# EAGLE library part 1X7 (library con-amp-micro-mate-n-lock)
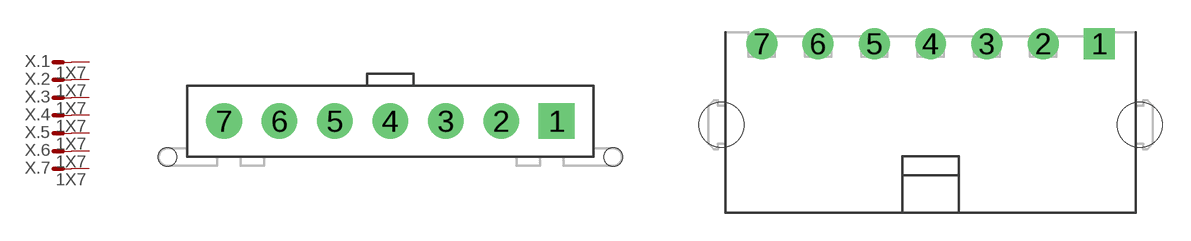
[diagram p6: symbol with the pads of 2-1445050-7; footprints 2-1445050-7, 2-1445054-7]

Designator prefix X; gates .1=M .2=M .3=M .4=M .5=M .6=M .7=M

## 1X7-A  [2-1445050-7]
1  .1:S  pas
2  .2:S  pas
3  .3:S  pas
4  .4:S  pas
5  .5:S  pas
6  .6:S  pas
7  .7:S  pas

## 1X7-B  [2-1445054-7]
Pads as for 2-1445050-7

## 1X7-C  [2-1445055-7]
Pads as for 2-1445050-7

## Footprint 2-1445050-7 (pad centres in mm)
drill 1.1 pad 1.93 square: 1 0,0
drill 1.1 pad 1.93 round: 2 -3,0; 3 -6,0; 4 -9,0; 5 -12,0; 6 -15,0; 7 -18,0
hole 1 at -21.07,-1.96
hole 1 at 3.07,-1.96

## Footprint 2-1445054-7 (pad centres in mm)
drill 1.1 square: 1 0,0
drill 1.1 round: 2 -3,0; 3 -6,0; 4 -9,0; 5 -12,0; 6 -15,0; 7 -18,0
hole 2.4 at 2.15,-4.32
hole 2.4 at -20.15,-4.32

## Footprint 2-1445055-7 (pad centres in mm)
drill 1.1 pad 1.93 square: 1 0,0
drill 1.1 pad 1.93 round: 2 -3,0; 3 -6,0; 4 -9,0; 5 -12,0; 6 -15,0; 7 -18,0
hole 3 at -2.15,-4.32
hole 3 at -15.85,-4.32